# EAGLE library part MAX520BEWE+ (library CRD)
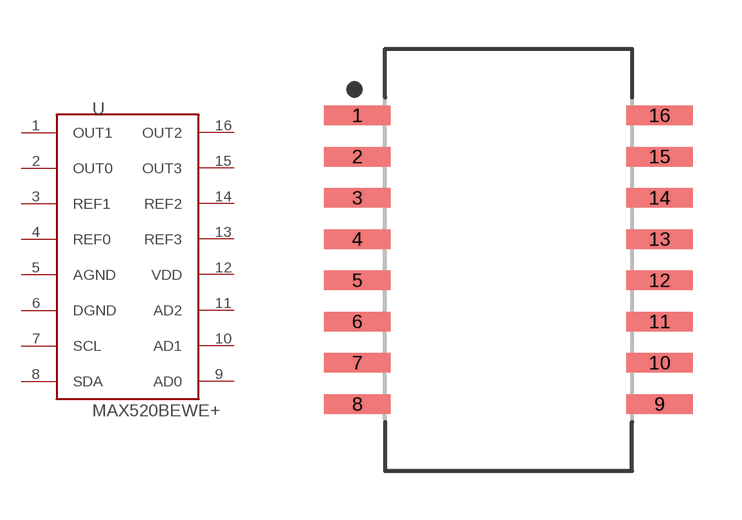
[diagram p1: symbol with the pads of SOIC127P1032X265-16N; footprint SOIC127P1032X265-16N]

Designator prefix U

## MAX520BEWE+  [SOIC127P1032X265-16N]
1  OUT1
2  OUT0
3  REF1
4  REF0
5  AGND
6  DGND
7  SCL
8  SDA
9  AD0
10  AD1
11  AD2
12  VDD
13  REF3
14  REF2
15  OUT3
16  OUT2

## Footprint SOIC127P1032X265-16N (pad centres in mm)
16-SOIC, 1.27 mm pitch, 10.32 mm span, 12.80 X 7.50 X 2.65 mm body 16-pin SOIC package with 1.27 mm pitch, 10.32 mm span with body size 12.80 X 7.50 X 2.65 mm
smd 2.052 x 0.602: 1 -4.654,4.445; 2 -4.654,3.175; 3 -4.654,1.905; 4 -4.654,0.635; 5 -4.654,-0.635; 6 -4.654,-1.905; 7 -4.654,-3.175; 8 -4.654,-4.445; 9 4.654,-4.445; 10 4.654,-3.175; 11 4.654,-1.905; 12 4.654,-0.635; 13 4.654,0.635; 14 4.654,1.905; 15 4.654,3.175; 16 4.654,4.445